# EAGLE library part IR2104 (library common components)
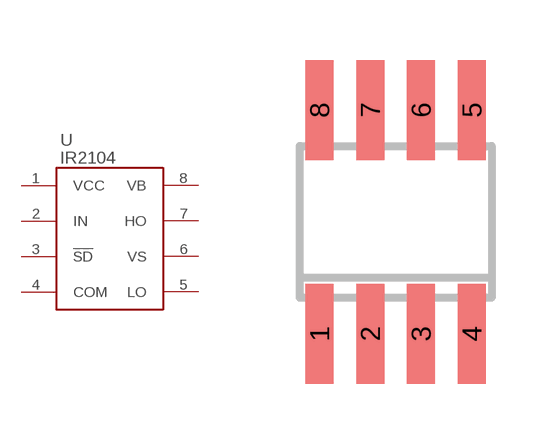
[diagram p11: symbol with the pads of SO08; footprint SO08]

Designator prefix U

## IR2104  [SO08]
1  VCC
2  IN
3  !SD
4  COM
5  LO
6  VS
7  HO
8  VB

## Footprint SO08 (pad centres in mm)
SMALL OUTLINE INTEGRATED CIRCUIT body 3.9 mm/JEDEC MS-012AA
smd 0.7 x 2.5: 1 -1.905,-2.8; 2 -0.635,-2.8; 3 0.635,-2.8; 4 1.905,-2.8; 5 1.905,2.8; 6 0.635,2.8; 7 -0.635,2.8; 8 -1.905,2.8